# EAGLE library part MAX9759 (library Audio)
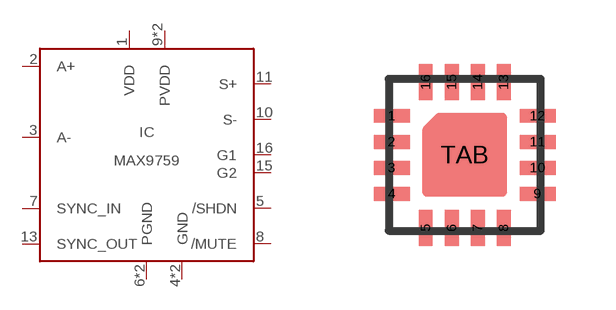
[diagram p0: symbol with the pads of QFN16; footprint QFN16]

Designator prefix IC

## MAX9759  [QFN16]
1  VDD
2  A+
3  A-
4  GND
5  /SHDN
6  PGND
7  SYNC_IN
8  /MUTE
9  PVDD
10  S-
11  S+
12  PVDD
13  SYNC_OUT
14  PGND
15  G2
16  G1
TAB  GND

## Footprint QFN16 (pad centres in mm)
QFN-16 4 x 4 mm Source: Data sheet <http://www.ftdichip.com/Support/Documents/DataSheets/ICs/DS_FT230X.pdf>
smd 0.9 x 0.35: 1 -1.825,0.975; 2 -1.825,0.325; 3 -1.825,-0.325; 4 -1.825,-0.975; 9 1.825,-0.975; 10 1.825,-0.325; 11 1.825,0.325; 12 1.825,0.975
smd 0.35 x 0.9: 5 -0.975,-1.825; 6 -0.325,-1.825; 7 0.325,-1.825; 8 0.975,-1.825; 13 0.975,1.825; 14 0.325,1.825; 15 -0.325,1.825; 16 -0.975,1.825
smd 1 x 1: TAB 0,0